# Altium footprint library M20-9990345.PcbLib: 1 footprints
Each footprint in its own frame and in the unit in brackets; x right, y up, seen from the top. Pads: shape width x height; smd on the part's side, far side on the other; paste and mask are expansions set on the pad; w line width, h text height; cw(c..) or ccw(c..) is an arc to the next point about the centre after c.
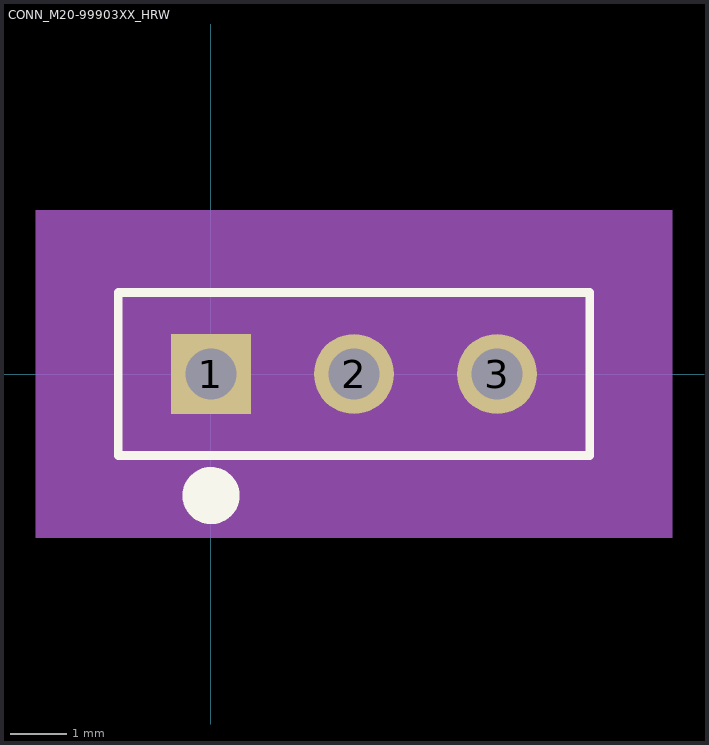
[diagram p0: the footprint, top view; thin cyan lines are the x and y axes]

## CONN_M20-99903XX_HRW [mil]
pads (3):
  rect 56x56 hole 36 mask+0: 1(0,0)
  round 56 hole 36 mask+0: 2(100,0) 3(200,0)
Top Overlay:
  circle w20: c0,-85 r10
  lines w6: -65,-57 265,-57 265,57 -65,57 -65,-57
Mechanical 5:
  region: 322.5,-114.5 -122.5,-114.5 -122.5,114.5 322.5,114.5
Mechanical 13:
  circle w0: c0,-37 r10
  lines w1: -60,-52 260,-52 260,52 -60,52 -60,-52
Mechanical 15:
  region: 270,62 -70,62 -70,-62 270,-62
  lines w6: -70,-62 -70,62 270,62 270,-62 -70,-62
3D body "CONN_M20-99903XX_HRW.step": height 344.02, standoff -200, extent -50,-12.99 250,12.99